# Altium schematic symbol library PBL - Electromechanical.SCHLIB: 10 symbols
Pins are listed as number, name and electrical type; pins without a type are passive.

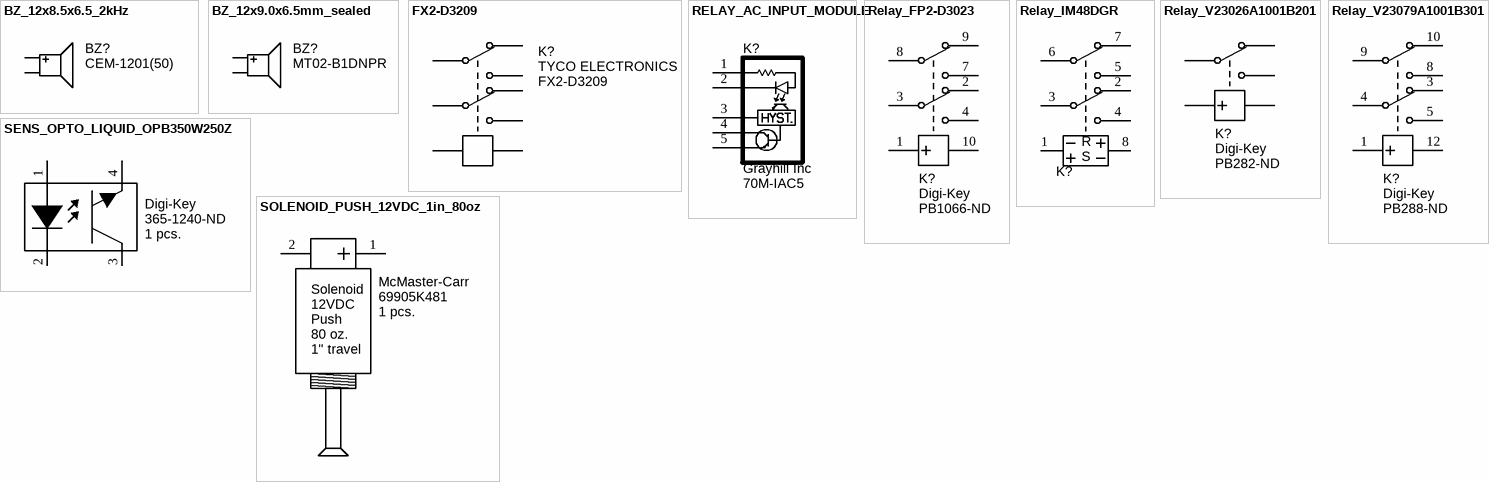
[diagram p0: symbols BZ_12x8.5x6.5_2kHz to SOLENOID_PUSH_12VDC_1in_80oz]

## BZ_12x8.5x6.5_2kHz
designator BZ?, comment Manufacturer Part Number 1: CEM-1201(50)  (hidden comment: Alternate part: 3100-932)
Speaker, Magnetic Transducer; Manufacturer 1: CUI Inc; Ratings: 2048 ±200 Hz; Package / Case: 6.5mm pitch; Material: Noryl SE1-J; Supplier 1: Digi-Key; Supplier Part Number 1: 102-1152-ND
footprint BUZZER_12.0X8.5MM
pins: 1 Positive, 2 Negative

## BZ_12x9.0x6.5mm_sealed
designator BZ?, comment Manufacturer Part Number 1: MT02-B1DNPR  (hidden comment: Alternate part: 3100-842)
Buzzer THD sealed 12.0 x 9.0mm DxH 6.5mm pitch; Manufacturer 1: SPL (Hong Kong) Limited; Ratings: 2048 Hz; Package / Case: 6.5mm pitch; Material: Noryl
footprint BUZZER_12.0X8.5MM
pins: 1 Positive, 2 Negative

## FX2-D3209
designator K?  Manufacturer 1: TYCO ELECTRONICS  Manufacturer Part Number 1: FX2-D3209  (hidden comment: *)
TYCO ELECTRONICS - FX2-D3209 - RELAY, PCB, DPCO, 5VDC; Voltage, Coil DC Nom: 5; Coil Resistance: 178; No. of Poles: 2; Contact Configuration: DPDT; Voltage, Contact AC Max: 250; Voltage, Contact DC Max: 220; Supplier 1: Newark; Supplier Part Number 1: 97K0381; Category: Switches & Relays; Series: FX2; Max Contact Current AC: 2; ComponentLink1URL: http://www.farnell.com/datasheets/68394.pdf; ComponentLink1Description: http://www.farnell.com/datasheets/68394.pdf
footprint Relay_Tyco_FX2 (Tyco FX2 DPDT 5VDC Relay)
pins: 1, 2, 3, 4, 5, 6, 7, 8

## RELAY_AC_INPUT_MODULE
designator K?  Manufacturer 1: Grayhill Inc  Manufacturer Part Number 1: 70M-IAC5
Style: Standard; Voltage - Input: 90 ~ 140VAC (120VAC Nom); Current - Input: 8mA; Logic Supply Voltage (Output): 5VDC (3 ~ 6VDC); Logic Supply Current (Output): 10mA; Turn On Time: 20ms; Description 1: MODL MINI AC INPUT 5V OUTPUT; RoHS: RoHS Compliant By Exemption; Category: Relays; Type: AC; Color: Yellow; Turn Off Time: 20ms; Features: Hold Down Screw; ComponentLink1URL: http://lgrws01.grayhill.com/web/images/ProductImages/AC%20Input%20Modules.pdf; ComponentLink1Description: http://lgrws01.grayhill.com/web/images/ProductImages/AC%20Input%20Modules.pdf; Supplier 1: Digi-Key; Supplier Part Number 1: GH7026-ND; Stock 1: 72; Pricing 1: 1=9.59, 10=8.633, 100=8.153, 250=7.674, 500=6.714 (USD)
pins: 1, 2, 3, 4, 5

## Relay_FP2-D3023
designator K?, comment Supplier 1: Digi-Key  Supplier Part Number 1: PB1066-ND  (hidden comment: Polarized Monostable DPCO)
Relay, THT, Low-profile, DPDT DPCO Telecom, 5VDC; Manufacturer 1: Tyco Electronics; Manufacturer Part Number 1: D3023; Circuit: DPDT (2 Form C); Control Off Voltage (Min): 0.5 VDC; Control On Voltage (Max): 3.75 VDC; Coil Current: 16mA; Coil Type: Standard; Ratings: 2A @ 30VDC; Category: Relays; Termination Style: PC Pin; Coil Voltage: 5VDC; Value: 5VDC; ComponentLink1Description: http://ecommas.tycoelectronics.com/commerce/DocumentDelivery/DDEController?Action=showdoc&DocId=Specification+Or+Standard%7F108-98005%7FE%7Fpdf%7FEnglish%7FENG_SS_108-98005_E.pdf; ComponentLink1URL: http://ecommas.tycoelectronics.com/commerce/DocumentDelivery/DDEController?Action=showdoc&DocId=Specification+Or+Standard%7F108-98005%7FE%7Fpdf%7FEnglish%7FENG_SS_108-98005_E.pdf; Contact Rating @ Voltage: 2A @ 30VDC; Mounting Type: Through Hole; Relay Type: Telecom
footprint Relay_Tyco_FP2 (Tyco FP2 DPDT 5VDC Relay)
pins: 1, 2, 3, 4, 7, 8, 9, 10

## Relay_IM48DGR
designator K?, comment Polarized Monostable DPCO  (value not drawn)
Relay SMD Telecom DPDT latching 2.4VDC; Manufacturer 1: TE Connectivity; Manufacturer Part Number 1: IM48DGR; Circuit: DPDT (2 Form C); Coil Current: 41.7mA; Coil Type: Latching, Single Coil; Ratings: 2A @ 30VDC; Coil Resistance: 58 Ohms; Coil Power: 100 mW; Coil Voltage: 2.4VDC; Value: 2.4VDC; Supplier 1: Digi-Key; Supplier Part Number 1: PB1175CT-ND
footprint Relay_TE_IM-Series_Gull (TE Connectivity IM48DGR latching relay, gullwing SMD)
pins: 1, 2, 3, 4, 5, 6, 7, 8
text: R; S

## Relay_V23026A1001B201
designator K?, comment Supplier 1: Digi-Key  Supplier Part Number 1: PB282-ND  (hidden comment: Polarized DPCO)
Relay, PCB Mount, SPDT, Polarized Monostable; Circuit: SPDT (1 Form C); Coil Voltage: 5VDC; Control Off Voltage (Min): 0.5 VDC; Control On Voltage (Max): 3.75 VDC; Coil Current: 13.6mA; Coil Type: Standard; Ratings: 1A @ 30VDC; Value: 5VDC; Category: Relays; Termination Style: PC Pin
pins: 1, 3, 5, 8, 10

## Relay_V23079A1001B301
designator K?, comment Supplier 1: Digi-Key  Supplier Part Number 1: PB288-ND  (hidden comment: Polarized DPCO)
Relay, PCB Mount, DPDT, Polarized Monostable; Manufacturer 1: Tyco Electronics; Manufacturer Part Number 1: V23079A1001B301; Circuit: DPDT (2 Form C); Coil Voltage: 5VDC; Control Off Voltage (Min): 0.5 VDC; Control On Voltage (Max): 3.75 VDC; Coil Current: 28mA; Coil Type: Standard; Ratings: 2A @ 30VDC; Value: 5VDC; Category: Relays; Termination Style: PC Pin
footprint Relay_Tyco_P2 (Tyco P2 DPDT 5VDC V23079 Relay)
pins: 1, 3, 4, 5, 8, 9, 10, 12

## SENS_OPTO_LIQUID_OPB350W250Z
designator X?, comment 1 pcs.  Supplier 1: Digi-Key  Supplier Part Number 1: 365-1240-ND  (mechanical)
Sensor, Photointerrupter, Liquid, 0.250"; Manufacturer 1: TT Electronics/Optek Technology; Manufacturer Part Number 1: OPB350W250Z; Wire Gauge: 26 AWG
pins: 1, 2, 3, 4

## SOLENOID_PUSH_12VDC_1in_80oz
designator X?, comment 1 pcs.  Supplier 1: McMaster-Carr  Supplier Part Number 1: 69905K481  (mechanical)
Solenoid, Linear, Continuous, 12VDC, Push, 1" @ 5 lbs.; PriceOverride: 24.86; Manufacturer 1: McMaster-Carr; Manufacturer Part Number 1: 69905K481
pins: 1, 2
text: Solenoid; 12VDC; Push; 80 oz.; 1" travel